# Altium integrated library LE5010_QFN32.IntLib: 1 symbol
Pins are listed as number, name and electrical type; pins without a type are passive.

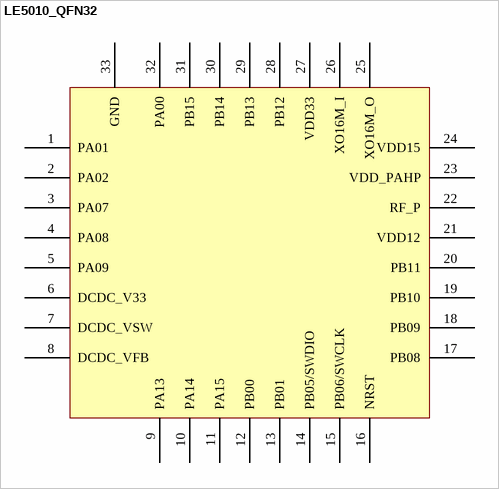
[diagram p0: symbol LE5010_QFN32]

## LE5010_QFN32
designator *???  (value not drawn)
footprint VQFN-32_L4.0-W4.0-P0.40-TL-EP
footprint VQFN-32_L4.0-W4.0-P0.40-TL-EP
pins: 1 PA01, 2 PA02, 3 PA07, 4 PA08, 5 PA09, 6 DCDC_V33, 7 DCDC_VSW, 8 DCDC_VFB, 9 PA13, 10 PA14, 11 PA15, 12 PB00, 13 PB01, 14 PB05/SWDIO, 15 PB06/SWCLK, 16 NRST, 17 PB08, 18 PB09, 19 PB10, 20 PB11, 21 VDD12, 22 RF_P, 23 VDD_PAHP, 24 VDD15, 25 XO16M_O, 26 XO16M_I, 27 VDD33, 28 PB12, 29 PB13, 30 PB14, 31 PB15, 32 PA00, 33 GND